# EAGLE library part TRACKERSłONECZNYLIB_A4988 (library Oskar.Kuchejda)
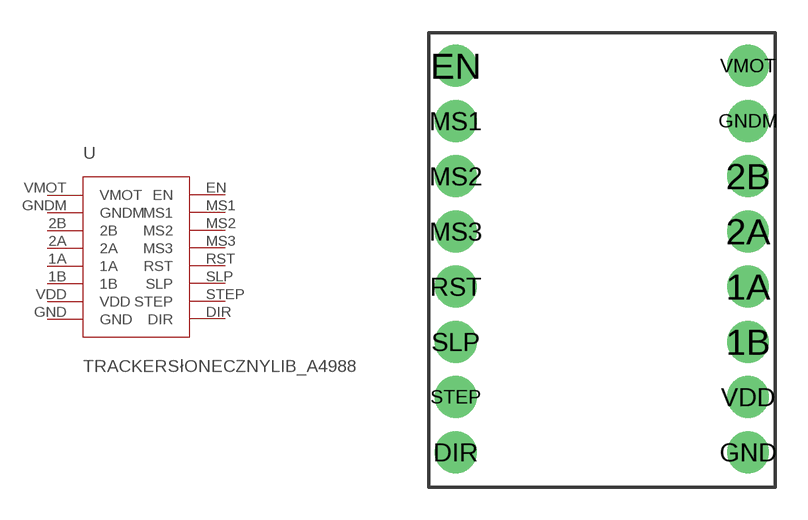
[diagram p0: symbol with the pads of TRACKERSłONECZNYLIB_A4988; footprint TRACKERSłONECZNYLIB_A4988]

Designator prefix -

## TRACKERSłONECZNYLIB_A4988  [TRACKERSłONECZNYLIB_A4988]
1A  1A
1B  1B
2A  2A
2B  2B
DIR  DIR
EN  EN
GND  GND
GNDM  GNDM
MS1  MS1
MS2  MS2
MS3  MS3
RST  RST
SLP  SLP
STEP  STEP
VDD  VDD
VMOT  VMOT

## Footprint TRACKERSłONECZNYLIB_A4988 (pad centres in mm)
drill 1 pad 1.93: 1A 14.75,9.26; 1B 14.75,6.71; 2A 14.75,11.81; 2B 14.75,14.36; DIR 1.26,1.61; EN 1.26,19.46; GND 14.75,1.61; GNDM 14.75,16.91; MS1 1.26,16.91; MS2 1.26,14.36; MS3 1.26,11.81; RST 1.26,9.26; SLP 1.26,6.71; STEP 1.26,4.16; VDD 14.75,4.16; VMOT 14.75,19.46